# EAGLE library part LIS33DE (library X893)
http://www.st.com/stonline/products/literature/ds/15596/lis33de.pdf
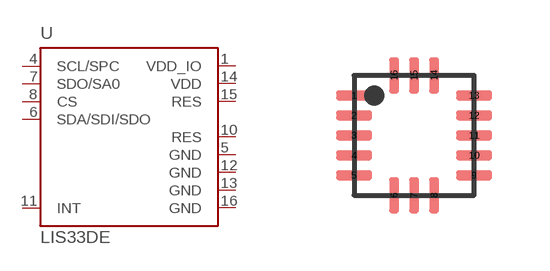
[diagram p57: symbol with the pads of LGA16-3X3; footprint LGA16-3X3]

Designator prefix -

## LIS33DE  [LGA16-3X3]
1  VDD_IO  pas
2  NC  nc
3  NC  nc
4  SCL/SPC
5  GND  pwr
6  SDA/SDI/SDO
7  SDO/SA0
8  CS
9  NC  nc
10  RES  pas
11  INT  out
12  GND  pwr
13  GND  pwr
14  VDD  pas
15  RES  pas
16  GND  pwr

## Footprint LGA16-3X3 (pad centres in mm)
smd 0.9 x 0.25: 1 -1.5,1; 2 -1.5,0.5; 3 -1.5,0; 4 -1.5,-0.5; 5 -1.5,-1; 9 1.5,-1; 10 1.5,-0.5; 11 1.5,0; 12 1.5,0.5; 13 1.5,1
smd 0.25 x 0.9: 6 -0.5,-1.5; 7 0,-1.5; 8 0.5,-1.5; 14 0.5,1.5; 15 0,1.5; 16 -0.5,1.5